# Altium footprint library linear.PCBLIB: 119 footprints (part 2 of 8)
Each footprint in its own frame and in the unit in brackets; x right, y up, seen from the top. Pads: shape width x height; smd on the part's side, far side on the other; paste and mask are expansions set on the pad; w line width, h text height; cw(c..) or ccw(c..) is an arc to the next point about the centre after c.
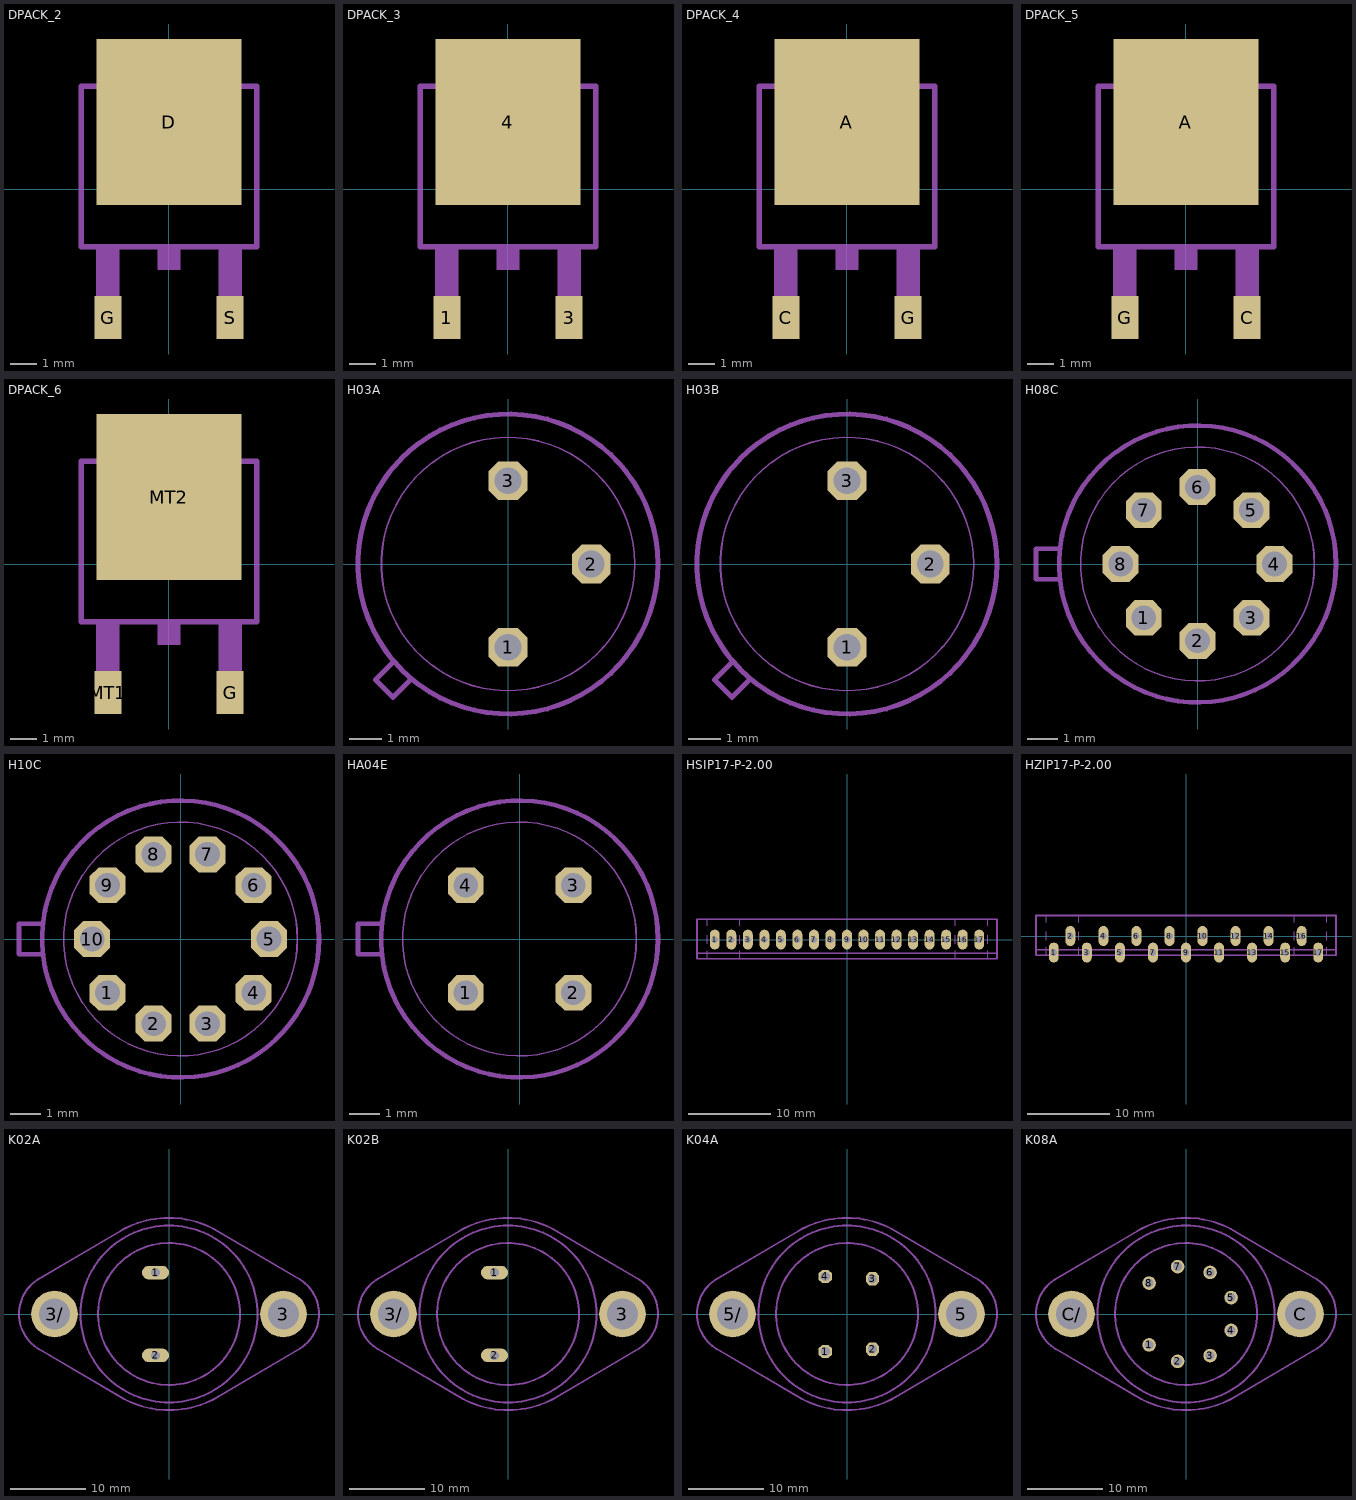
[diagram p1: the footprints below, top view; thin cyan lines are the x and y axes]

## DPACK_2 [mm]
pads (3):
  rect 5.4x6.2 smd: D(0,2.5)
  rect 1x1.6 smd: G(-2.28,-4.8) S(2.28,-4.8)
Mechanical 2:
  rectangle: -0.432,-3.023 0.432,-2.261
  lines w0.203: -3.277,3.835 -3.277,-2.159 3.277,-2.159 3.277,3.835
Mechanical 18:
  rectangle: -2.718,-5.156 -1.854,-2.261
  rectangle: 1.854,-5.156 2.718,-2.261
  region: 0,0 0.254,0 0.254,0.254 0,0.254
  lines w0.203: -3.277,3.835 3.277,3.835 ; -2.565,3.937 -2.565,4.648 -2.108,5.105 2.108,5.105 2.565,4.648 2.565,3.937 -2.565,3.937

## DPACK_3 [mm]
pads (3):
  rect 1x1.6 smd: 1(-2.28,-4.8) 3(2.28,-4.8)
  rect 5.4x6.2 smd: 4(0,2.5)
Mechanical 2:
  rectangle: -0.432,-3.023 0.432,-2.261
  lines w0.203: -3.277,3.835 -3.277,-2.159 3.277,-2.159 3.277,3.835
Mechanical 18:
  rectangle: -2.718,-5.156 -1.854,-2.261
  rectangle: 1.854,-5.156 2.718,-2.261
  region: 0,0 0.254,0 0.254,0.254 0,0.254
  lines w0.203: -3.277,3.835 3.277,3.835 ; -2.565,3.937 -2.565,4.648 -2.108,5.105 2.108,5.105 2.565,4.648 2.565,3.937 -2.565,3.937

## DPACK_4 [mm]
pads (3):
  rect 5.4x6.2 smd: A(0,2.5)
  rect 1x1.6 smd: C(-2.28,-4.8) G(2.28,-4.8)
Mechanical 2:
  rectangle: -0.432,-3.023 0.432,-2.261
  lines w0.203: -3.277,3.835 -3.277,-2.159 3.277,-2.159 3.277,3.835
Mechanical 18:
  rectangle: -2.718,-5.156 -1.854,-2.261
  rectangle: 1.854,-5.156 2.718,-2.261
  region: 0,0 0.254,0 0.254,0.254 0,0.254
  lines w0.203: -3.277,3.835 3.277,3.835 ; -2.565,3.937 -2.565,4.648 -2.108,5.105 2.108,5.105 2.565,4.648 2.565,3.937 -2.565,3.937

## DPACK_5 [mm]
pads (3):
  rect 5.4x6.2 smd: A(0,2.5)
  rect 1x1.6 smd: C(2.28,-4.8) G(-2.28,-4.8)
Mechanical 2:
  rectangle: -0.432,-3.023 0.432,-2.261
  lines w0.203: -3.277,3.835 -3.277,-2.159 3.277,-2.159 3.277,3.835
Mechanical 18:
  rectangle: -2.718,-5.156 -1.854,-2.261
  rectangle: 1.854,-5.156 2.718,-2.261
  region: 0,0 0.254,0 0.254,0.254 0,0.254
  lines w0.203: -3.277,3.835 3.277,3.835 ; -2.565,3.937 -2.565,4.648 -2.108,5.105 2.108,5.105 2.565,4.648 2.565,3.937 -2.565,3.937

## DPACK_6 [mm]
pads (3):
  rect 1x1.6 smd: G(2.28,-4.8) MT1(-2.28,-4.8)
  rect 5.4x6.2 smd: MT2(0,2.5)
Mechanical 2:
  rectangle: -0.432,-3.023 0.432,-2.261
  lines w0.203: -3.277,3.835 -3.277,-2.159 3.277,-2.159 3.277,3.835
Mechanical 18:
  rectangle: -2.718,-5.156 -1.854,-2.261
  rectangle: 1.854,-5.156 2.718,-2.261
  region: 0,0 0.254,0 0.254,0.254 0,0.254
  lines w0.203: -3.277,3.835 3.277,3.835 ; -2.565,3.937 -2.565,4.648 -2.108,5.105 2.108,5.105 2.565,4.648 2.565,3.937 -2.565,3.937

## H03A [mil]
pads (3):
  oct 46.48x46.48 hole 32: 1(0,-100) 2(100,0) 3(0,100)
Mechanical 2:
  circle w6: c0,0 r180
  circle w2: c0,0 r152
  lines w6: -138,-118 -159,-139 -138,-160 -117,-139

## H03B [mil]
pads (3):
  oct 46.48x46.48 hole 32: 1(0,-100) 2(100,0) 3(0,100)
Mechanical 2:
  circle w6: c0,0 r180
  circle w2: c0,0 r152
  lines w6: -138,-118 -159,-139 -138,-160 -117,-139

## H08C [mil]
pads (8):
  oct 46.48x46.48 hole 32: 1(-70,-70) 2(0,-100) 3(70,-70) 4(100,0) 5(70,70) 6(0,100) 7(-70,70) 8(-100,0)
Mechanical 2:
  circle w6: c0,0 r180
  circle w2: c0,0 r152
  lines w6: -180,-20 -210,-20 -210,20 -180,20

## H10C [mil]
pads (10):
  oct 46.48x46.48 hole 32: 1(-95,-70) 2(-35,-110) 3(35,-110) 4(95,-70) 5(115,0) 6(95,70) 7(35,110) 8(-35,110) 9(-95,70) 10(-115,0)
Mechanical 2:
  circle w6: c0,0 r180
  circle w2: c0,0 r152
  lines w6: -180,-20 -210,-20 -210,20 -180,20

## HA04E [mil]
pads (4):
  oct 46.48x46.48 hole 32: 1(-70,-70) 2(70,-70) 3(70,70) 4(-70,70)
Mechanical 2:
  circle w6: c0,0 r180
  circle w2: c0,0 r152
  lines w6: -180,-20 -210,-20 -210,20 -180,20

## HSIP17-P-2.00 [mil]
pads (17):
  oval 47.24x94.48 hole 31.5: 1(-629.92,0) 2(-551.18,0) 3(-472.44,0) 4(-393.7,0) 5(-314.96,0) 6(-236.22,0) 7(-157.48,0) 8(-78.74,0) 9(0,0) 10(78.74,0) 11(157.48,0) 12(236.22,0) 13(314.96,0) 14(393.7,0) 15(472.44,0) 16(551.18,0) 17(629.92,0)
Mechanical 2:
  lines w4: -667.32,-88.58 -667.32,-53.15 ; -667.32,-20.67 -667.32,20.67 ; -667.32,65.94 -667.32,93.5 ; -513.78,-88.58 -513.78,-53.15 ; -513.78,-20.67 -513.78,20.67 ; -513.78,65.94 -513.78,93.5 ; 513.78,-88.58 513.78,-53.15 ; 513.78,-20.67 513.78,20.67 ; 513.78,65.94 513.78,93.5 ; 667.32,-88.58 667.32,-53.15 ; 667.32,-20.67 667.32,20.67 ; 667.32,65.94 667.32,93.5
  lines w8: -714.57,-64.96 -714.57,-91.54 714.57,-91.54 714.57,-64.96 ; -714.57,-64.96 -714.57,97.44 714.57,97.44 714.57,-64.96 ; -714.57,-64.96 714.57,-64.96

## HZIP17-P-2.00 [mil]
pads (17):
  oval 47.24x94.48 hole 31.5: 1(-629.92,-78.74) 2(-551.18,0) 3(-472.44,-78.74) 4(-393.7,0) 5(-314.96,-78.74) 6(-236.22,0) 7(-157.48,-78.74) 8(-78.74,0) 9(0,-78.74) 10(78.74,0) 11(157.48,-78.74) 12(236.22,0) 13(314.96,-78.74) 14(393.7,0) 15(472.44,-78.74) 16(551.18,0) 17(629.92,-78.74)
Mechanical 2:
  lines w4: -667.32,-88.58 -667.32,-53.15 ; -667.32,-20.67 -667.32,20.67 ; -667.32,65.94 -667.32,93.5 ; -513.78,-88.58 -513.78,-53.15 ; -513.78,-20.67 -513.78,20.67 ; -513.78,65.94 -513.78,93.5 ; 513.78,-88.58 513.78,-53.15 ; 513.78,-20.67 513.78,20.67 ; 513.78,65.94 513.78,93.5 ; 667.32,-88.58 667.32,-53.15 ; 667.32,-20.67 667.32,20.67 ; 667.32,65.94 667.32,93.5
  lines w8: -669.29,-91.54 -714.57,-91.54 -714.57,-64.96 ; -669.29,-64.96 -714.57,-64.96 ; -590.55,-91.54 -511.81,-91.54 ; -590.55,-64.96 -511.81,-64.96 ; -433.07,-91.54 -354.33,-91.54 ; -433.07,-64.96 -354.33,-64.96 ; -275.59,-91.54 -196.85,-91.54 ; -275.59,-64.96 -196.85,-64.96 ; -118.11,-91.54 -39.37,-91.54 ; -118.11,-64.96 -39.37,-64.96 ; 39.37,-91.54 118.11,-91.54 ; 39.37,-64.96 118.11,-64.96 ; 196.85,-91.54 275.59,-91.54 ; 196.85,-64.96 275.59,-64.96 ; 354.33,-91.54 433.07,-91.54 ; 354.33,-64.96 433.07,-64.96 ; 511.81,-91.54 590.55,-91.54 ; 511.81,-64.96 590.55,-64.96 ; 669.29,-91.54 714.57,-91.54 714.57,-64.96 ; 669.29,-64.96 714.57,-64.96 ; -714.57,-64.96 -714.57,97.44 714.57,97.44 714.57,-64.96
Mechanical 18:
  lines w8: -714.57,-91.54 714.57,-91.54 ; -714.57,-64.96 714.57,-64.96

## K02A [mil]
pads (4):
  oval 141x70.5 hole 47: 1(-70,215) 2(-70,-215)
  round 243 hole 162: 3(595,0) 3/(-595,0)
Mechanical 2:
  circle w10: c0,0 r369
  circle w10: c0,0 r460
  lines w10: -680,180 -250,433 ; -679,-181 -234,-442 ; -675.41,-183.35 cw(c-567,0) -780,0 cw(c-567,0) -672.94,184.78 ; -250.86,432.52 cw(c-0.01,0) 0,500 cw(c0.01,-0.01) 235.3,441.18 ; -235.3,-441.18 ccw(c-0.01,0.01) 0,-500 ccw(c0.01,0) 250.86,-432.52 ; 235,441 684,178 ; 251,-433 684,-178 ; 682.54,-178.94 ccw(c567,0) 780,0 ccw(c567,0) 682.54,178.94
Mechanical 18:
  circle w10: c595,0 r85
  circle w10: c-595,0 r85

## K02B [mil]
pads (4):
  oval 141x70.5 hole 47: 1(-70,215) 2(-70,-215)
  round 243 hole 162: 3(595,0) 3/(-595,0)
Mechanical 2:
  circle w10: c0,0 r369
  circle w10: c0,0 r460
  lines w10: -680,180 -250,433 ; -679,-181 -234,-442 ; -675.41,-183.35 cw(c-567,0) -780,0 cw(c-567,0) -672.94,184.78 ; -250.86,432.52 cw(c-0.01,0) 0,500 cw(c0.01,-0.01) 235.3,441.18 ; -235.3,-441.18 ccw(c-0.01,0.01) 0,-500 ccw(c0.01,0) 250.86,-432.52 ; 235,441 684,178 ; 251,-433 684,-178 ; 682.54,-178.94 ccw(c567,0) 780,0 ccw(c567,0) 682.54,178.94
Mechanical 18:
  circle w10: c595,0 r85
  circle w10: c-595,0 r85

## K04A [mil]
pads (6):
  oct 68.26x68.26 hole 47: 1(-113.17,-195.75) 2(132.8,-183) 3(132.8,183) 4(-113.17,195.75)
  round 243 hole 162: 5(595,0) 5/(-595,0)
Mechanical 2:
  circle w10: c0,0 r369
  circle w10: c0,0 r460
  lines w10: -680,180 -250,433 ; -679,-181 -234,-442 ; -675.41,-183.35 cw(c-567,0) -780,0 cw(c-567,0) -672.94,184.78 ; -250.86,432.52 cw(c-0.01,0) 0,500 cw(c0.01,-0.01) 235.3,441.18 ; -235.3,-441.18 ccw(c-0.01,0.01) 0,-500 ccw(c0.01,0) 250.86,-432.52 ; 235,441 684,178 ; 251,-433 684,-178 ; 682.54,-178.94 ccw(c567,0) 780,0 ccw(c567,0) 682.54,178.94
Mechanical 18:
  circle w10: c595,0 r85
  circle w10: c-595,0 r85

## K08A [mil]
pads (10):
  round 70.5 hole 47: 1(-191.51,-160.7) 2(-43.41,-246.2) 3(125,-216.51) 4(234.92,-85.5) 5(234.92,85.5) 6(125,216.51) 7(-43.41,246.2) 8(-191.51,160.7)
  round 243 hole 162: C(595,0) C/(-595,0)
Mechanical 2:
  circle w10: c0,0 r369
  circle w10: c0,0 r460
  lines w10: -680,180 -250,433 ; -679,-181 -234,-442 ; -675.41,-183.35 cw(c-567,0) -780,0 cw(c-567,0) -672.94,184.78 ; -250.86,432.52 cw(c-0.01,0) 0,500 cw(c0.01,-0.01) 235.3,441.18 ; -235.3,-441.18 ccw(c-0.01,0.01) 0,-500 ccw(c0.01,0) 250.86,-432.52 ; 235,441 684,178 ; 251,-433 684,-178 ; 682.54,-178.94 ccw(c567,0) 780,0 ccw(c567,0) 682.54,178.94
Mechanical 18:
  circle w6: c595,0 r85
  circle w6: c-595,0 r85